# Altium integrated library traco.IntLib: 2 symbols
Pins are listed as number, name and electrical type; pins without a type are passive.

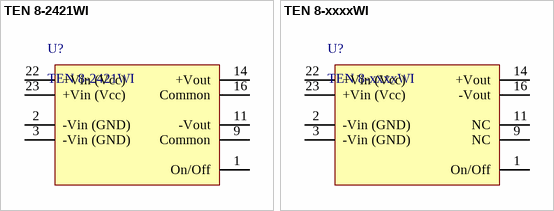
[diagram p0: symbols TEN 8-2421WI to TEN 8-xxxxWI]

## TEN 8-2421WI
designator U?
DC/DC Converter, 8W, Single Ended
footprint TEN 8-WI Series (DC/DC Converter, 8W)
pins: 1 On/Off, 2 -Vin (GND), 3 -Vin (GND), 9 Common, 11 -Vout, 14 +Vout, 16 Common, 22 +Vin (Vcc), 23 +Vin (Vcc)

## TEN 8-xxxxWI
designator U?
DC/DC Converter, 8W, Single Ended
footprint TEN 8-WI Series (DC/DC Converter, 8W)
pins: 1 On/Off, 2 -Vin (GND), 3 -Vin (GND), 9 NC, 11 NC, 14 +Vout, 16 -Vout, 22 +Vin (Vcc), 23 +Vin (Vcc)